# Altium schematic symbol library 06033A331GAT2A.SchLib: 1 symbol
Pins are listed as number, name and electrical type; pins without a type are passive.

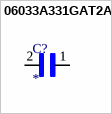
[diagram p0: symbol 06033A331GAT2A]

## 06033A331GAT2A
designator C?
0603 SMD Ceramic Capacitors 0603 330pF 25volts C0G 2%; MP: 06033A331GAT2A; MF: {'manufacturer': u'AVX'}; Price: None; Availability: Unavailable; Value: *; Package: None
footprint CAPC1608X90
pins: 1, 2